# EAGLE library part KLMAG1JETD-B041 (library KLMAG1JETD-B041)
INSTOCK Source: Datasheet <https://datasheet.lcsc.com/lcsc/2007011825_Samsung-KLMAG1JETD-B041_C499919.pdf>
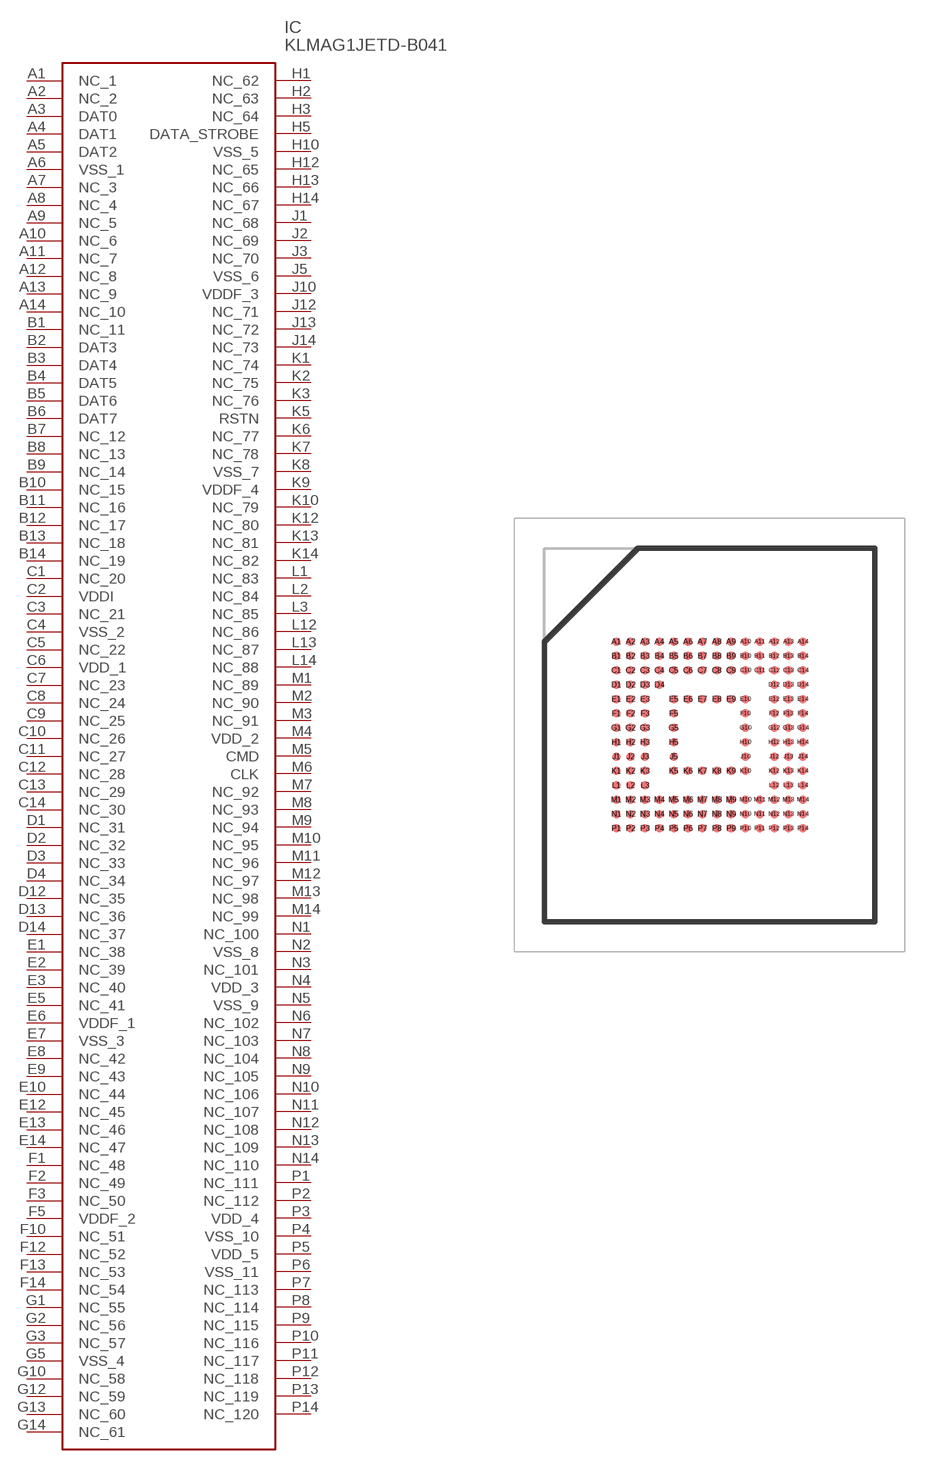
[diagram p0: symbol with the pads of BGA153C50P14X14_1150X1300X80; footprint BGA153C50P14X14_1150X1300X80]

Designator prefix IC

## KLMAG1JETD-B041 (Description: INSTOCK; Height: 0.8mm; Manufacturer_Name: SAMSUNG; Manufacturer_Part_Number: KLMAG1JETD-B041)  [BGA153C50P14X14_1150X1300X80]
A1  NC_1
A2  NC_2
A3  DAT0
A4  DAT1
A5  DAT2
A6  VSS_1
A7  NC_3
A8  NC_4
A9  NC_5
A10  NC_6
A11  NC_7
A12  NC_8
A13  NC_9
A14  NC_10
B1  NC_11
B2  DAT3
B3  DAT4
B4  DAT5
B5  DAT6
B6  DAT7
B7  NC_12
B8  NC_13
B9  NC_14
B10  NC_15
B11  NC_16
B12  NC_17
B13  NC_18
B14  NC_19
C1  NC_20
C2  VDDI
C3  NC_21
C4  VSS_2
C5  NC_22
C6  VDD_1
C7  NC_23
C8  NC_24
C9  NC_25
C10  NC_26
C11  NC_27
C12  NC_28
C13  NC_29
C14  NC_30
D1  NC_31
D2  NC_32
D3  NC_33
D4  NC_34
D12  NC_35
D13  NC_36
D14  NC_37
E1  NC_38
E2  NC_39
E3  NC_40
E5  NC_41
E6  VDDF_1
E7  VSS_3
E8  NC_42
E9  NC_43
E10  NC_44
E12  NC_45
E13  NC_46
E14  NC_47
F1  NC_48
F2  NC_49
F3  NC_50
F5  VDDF_2
F10  NC_51
F12  NC_52
F13  NC_53
F14  NC_54
G1  NC_55
G2  NC_56
G3  NC_57
G5  VSS_4
G10  NC_58
G12  NC_59
G13  NC_60
G14  NC_61
H1  NC_62
H2  NC_63
H3  NC_64
H5  DATA_STROBE
H10  VSS_5
H12  NC_65
H13  NC_66
H14  NC_67
J1  NC_68
J2  NC_69
J3  NC_70
J5  VSS_6
J10  VDDF_3
J12  NC_71
J13  NC_72
J14  NC_73
K1  NC_74
K2  NC_75
K3  NC_76
K5  RSTN
K6  NC_77
K7  NC_78
K8  VSS_7
K9  VDDF_4
K10  NC_79
K12  NC_80
K13  NC_81
K14  NC_82
L1  NC_83
L2  NC_84
L3  NC_85
L12  NC_86
L13  NC_87
L14  NC_88
M1  NC_89
M2  NC_90
M3  NC_91
M4  VDD_2
M5  CMD
M6  CLK
M7  NC_92
M8  NC_93
M9  NC_94
M10  NC_95
M11  NC_96
M12  NC_97
M13  NC_98
M14  NC_99
N1  NC_100
N2  VSS_8
N3  NC_101
N4  VDD_3
N5  VSS_9
N6  NC_102
N7  NC_103
N8  NC_104
N9  NC_105
N10  NC_106
N11  NC_107
N12  NC_108
N13  NC_109
N14  NC_110
P1  NC_111
P2  NC_112
P3  VDD_4
P4  VSS_10
P5  VDD_5
P6  VSS_11
P7  NC_113
P8  NC_114
P9  NC_115
P10  NC_116
P11  NC_117
P12  NC_118
P13  NC_119
P14  NC_120

## Footprint BGA153C50P14X14_1150X1300X80 (pad centres in mm)
153-bga [16 gb]
smd 0.29 x 0.29: A1 -3.25,3.25; A2 -2.75,3.25; A3 -2.25,3.25; A4 -1.75,3.25; A5 -1.25,3.25; A6 -0.75,3.25; A7 -0.25,3.25; A8 0.25,3.25; A9 0.75,3.25; A10 1.25,3.25; A11 1.75,3.25; A12 2.25,3.25; A13 2.75,3.25; A14 3.25,3.25; B1 -3.25,2.75; B2 -2.75,2.75; B3 -2.25,2.75; B4 -1.75,2.75; B5 -1.25,2.75; B6 -0.75,2.75; B7 -0.25,2.75; B8 0.25,2.75; B9 0.75,2.75; B10 1.25,2.75; B11 1.75,2.75; B12 2.25,2.75; B13 2.75,2.75; B14 3.25,2.75; C1 -3.25,2.25; C2 -2.75,2.25; C3 -2.25,2.25; C4 -1.75,2.25; C5 -1.25,2.25; C6 -0.75,2.25; C7 -0.25,2.25; C8 0.25,2.25; C9 0.75,2.25; C10 1.25,2.25; C11 1.75,2.25; C12 2.25,2.25; C13 2.75,2.25; C14 3.25,2.25; D1 -3.25,1.75; D2 -2.75,1.75; D3 -2.25,1.75; D4 -1.75,1.75; D12 2.25,1.75; D13 2.75,1.75; D14 3.25,1.75; E1 -3.25,1.25; E2 -2.75,1.25; E3 -2.25,1.25; E5 -1.25,1.25; E6 -0.75,1.25; E7 -0.25,1.25; E8 0.25,1.25; E9 0.75,1.25; E10 1.25,1.25; E12 2.25,1.25; E13 2.75,1.25; E14 3.25,1.25; F1 -3.25,0.75; F2 -2.75,0.75; F3 -2.25,0.75; F5 -1.25,0.75; F10 1.25,0.75; F12 2.25,0.75; F13 2.75,0.75; F14 3.25,0.75; G1 -3.25,0.25; G2 -2.75,0.25; G3 -2.25,0.25; G5 -1.25,0.25; G10 1.25,0.25; G12 2.25,0.25; G13 2.75,0.25; G14 3.25,0.25; H1 -3.25,-0.25; H2 -2.75,-0.25; H3 -2.25,-0.25; H5 -1.25,-0.25; H10 1.25,-0.25; H12 2.25,-0.25; H13 2.75,-0.25; H14 3.25,-0.25; J1 -3.25,-0.75; J2 -2.75,-0.75; J3 -2.25,-0.75; J5 -1.25,-0.75; J10 1.25,-0.75; J12 2.25,-0.75; J13 2.75,-0.75; J14 3.25,-0.75; K1 -3.25,-1.25; K2 -2.75,-1.25; K3 -2.25,-1.25; K5 -1.25,-1.25; K6 -0.75,-1.25; K7 -0.25,-1.25; K8 0.25,-1.25; K9 0.75,-1.25; K10 1.25,-1.25; K12 2.25,-1.25; K13 2.75,-1.25; K14 3.25,-1.25; L1 -3.25,-1.75; L2 -2.75,-1.75; L3 -2.25,-1.75; L12 2.25,-1.75; L13 2.75,-1.75; L14 3.25,-1.75; M1 -3.25,-2.25; M2 -2.75,-2.25; M3 -2.25,-2.25; M4 -1.75,-2.25; M5 -1.25,-2.25; M6 -0.75,-2.25; M7 -0.25,-2.25; M8 0.25,-2.25; M9 0.75,-2.25; M10 1.25,-2.25; M11 1.75,-2.25; M12 2.25,-2.25; M13 2.75,-2.25; M14 3.25,-2.25; N1 -3.25,-2.75; N2 -2.75,-2.75; N3 -2.25,-2.75; N4 -1.75,-2.75; N5 -1.25,-2.75; N6 -0.75,-2.75; N7 -0.25,-2.75; N8 0.25,-2.75; N9 0.75,-2.75; N10 1.25,-2.75; N11 1.75,-2.75; N12 2.25,-2.75; N13 2.75,-2.75; N14 3.25,-2.75; P1 -3.25,-3.25; P2 -2.75,-3.25; P3 -2.25,-3.25; P4 -1.75,-3.25; P5 -1.25,-3.25; P6 -0.75,-3.25; P7 -0.25,-3.25; P8 0.25,-3.25; P9 0.75,-3.25; P10 1.25,-3.25; P11 1.75,-3.25; P12 2.25,-3.25; P13 2.75,-3.25; P14 3.25,-3.25